# EAGLE library part M06 (library header)
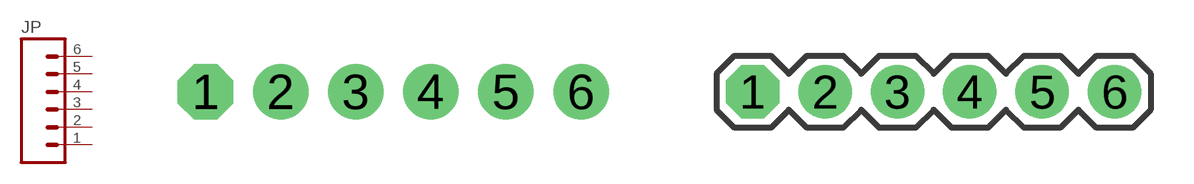
[diagram p0: symbol with the pads of 1X06-NOSILK; footprints 1X06-NOSILK, 1X06]

Designator prefix JP

## M06NOSILK  [1X06-NOSILK]
1  1  pas
2  2  pas
3  3  pas
4  4  pas
5  5  pas
6  6  pas

## M06STD  [1X06]
Pads as for 1X06-NOSILK

## M061.27  [1X06-1.27]
Pads as for 1X06-NOSILK

## M061.27-NOSILK  [1X06-1.27-NOSILK]
Pads as for 1X06-NOSILK

## M06NOSILK-NOMARK-REDUCED  [1X06-NOSILK-NOMARK-REDUCED]
Pads as for 1X06-NOSILK

## Footprint 1X06-NOSILK (pad centres in mm)
drill 1.016 pad 1.88 octagon: 1 0,0
drill 1.016 pad 1.88: 2 2.54,0; 3 5.08,0; 4 7.62,0; 5 10.16,0; 6 12.7,0

## Footprint 1X06 (pad centres in mm)
drill 1.016 pad 1.88 octagon: 1 -6.35,0
drill 1.016 pad 1.88: 2 -3.81,0; 3 -1.27,0; 4 1.27,0; 5 3.81,0; 6 6.35,0

## Footprint 1X06-1.27 (pad centres in mm)
drill 0.7 pad 1 octagon: 1 0,0
drill 0.7 pad 1: 2 1.27,0; 3 2.54,0; 4 3.81,0; 5 5.08,0; 6 6.35,0

## Footprint 1X06-1.27-NOSILK (pad centres in mm)
drill 0.7 pad 1 octagon: 1 0,0
drill 0.7 pad 1: 2 1.27,0; 3 2.54,0; 4 3.81,0; 5 5.08,0; 6 6.35,0

## Footprint 1X06-NOSILK-NOMARK-REDUCED (pad centres in mm)
drill 0.9: 1 0,0; 2 2.54,0; 3 5.08,0; 4 7.62,0; 5 10.16,0; 6 12.7,0